# Altium schematic symbol library ADM706.SchLib: 1 symbol
Pins are listed as number, name and electrical type; pins without a type are passive.

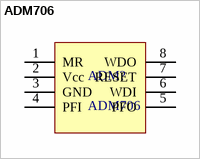
[diagram p0: symbol ADM706]

## ADM706
designator ADM?
Low Cost Microprocessor  Supervisory Circuits
pins: 1 MR, 2 Vcc, 3 GND, 4 PFI, 5 PFO, 6 WDI, 7 RESET, 8 WDO